# Altium footprint library DriverLib.PcbLib: 13 footprints
Each footprint in its own frame and in the unit in brackets; x right, y up, seen from the top. Pads: shape width x height; smd on the part's side, far side on the other; paste and mask are expansions set on the pad; w line width, h text height; cw(c..) or ccw(c..) is an arc to the next point about the centre after c.
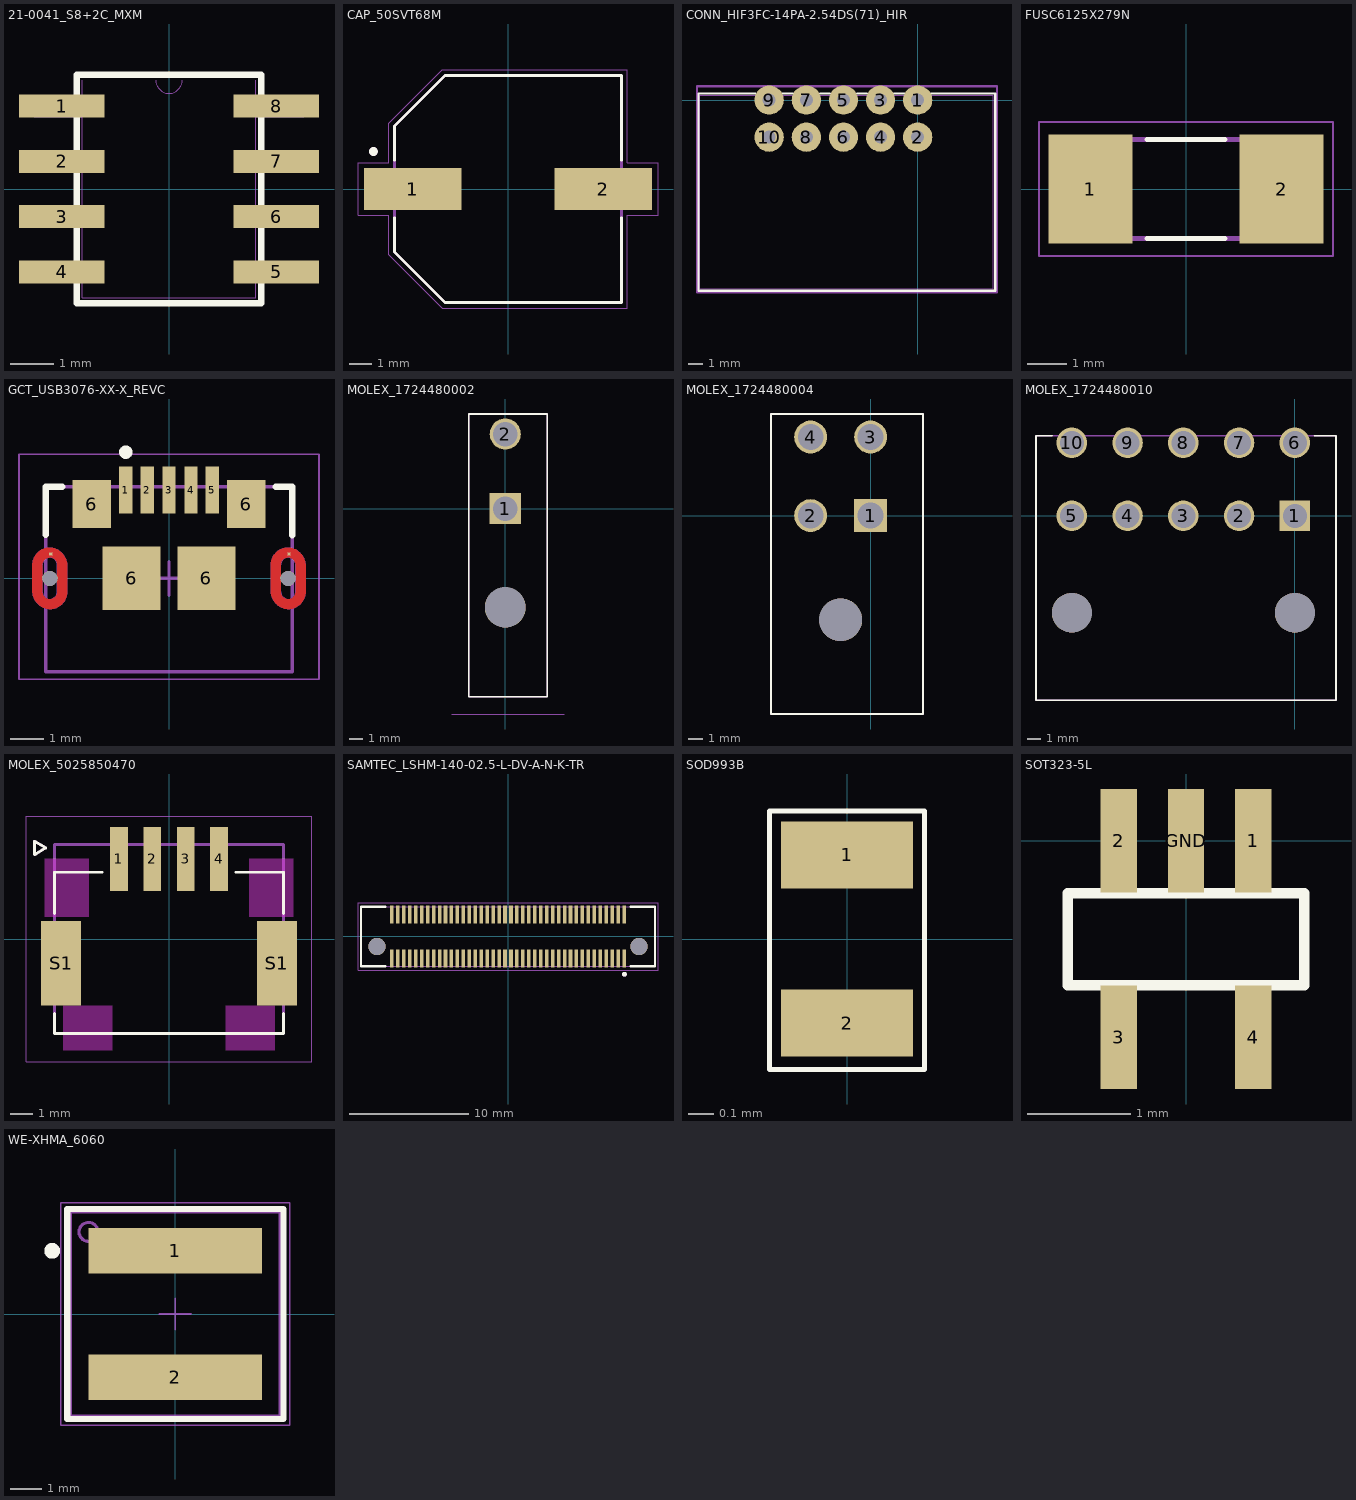
[diagram p0: the footprints below, top view; thin cyan lines are the x and y axes]

## 21-0041_S8+2C_MXM [mm]
pads (8):
  rect 1.97x0.533 smd paste+0 mask+0: 1(-2.464,1.905) 2(-2.464,0.635) 3(-2.464,-0.635) 4(-2.464,-1.905) 5(2.464,-1.905) 6(2.464,-0.635) 7(2.464,0.635) 8(2.464,1.905)
Top Overlay:
  lines w0.152: -2.121,-2.629 2.121,-2.629 2.121,2.629 -2.121,2.629 -2.121,-2.629
Mechanical 13:
  lines w0: -0.305,2.502 ccw(c0,2.502) 0.305,2.502
  lines w0.025: -1.994,2.502 -1.994,-2.502 1.994,-2.502 1.994,2.502 ; -3.099,-2.146 -1.994,-2.146 -1.994,-1.664 -3.099,-1.664 -3.099,-2.146 ; -3.099,-0.876 -1.994,-0.876 -1.994,-0.394 -3.099,-0.394 -3.099,-0.876 ; -3.099,0.394 -1.994,0.394 -1.994,0.876 -3.099,0.876 -3.099,0.394 ; -3.099,1.664 -1.994,1.664 -1.994,2.146 -3.099,2.146 -3.099,1.664 ; 1.994,-2.146 3.099,-2.146 3.099,-1.664 1.994,-1.664 1.994,-2.146 ; 1.994,-0.876 3.099,-0.876 3.099,-0.394 1.994,-0.394 1.994,-0.876 ; 1.994,0.394 3.099,0.394 3.099,0.876 1.994,0.876 1.994,0.394 ; 1.994,1.664 3.099,1.664 3.099,2.146 1.994,2.146 1.994,1.664
3D body "21-0041_S8+2C_MXM.step": height 1.76, standoff 0, extent -3.099,-2.502 3.099,2.502
3D body: height 0.25, standoff 0, extent 0,0 0.254,0.254

## CAP_50SVT68M [mm]
pads (2):
  rect 4.4x1.9 smd: 1(-4.318,0) 2(4.318,0)
Top Overlay:
  circle w0.2: c-6.1,1.7 r0.1
  lines w0.127: -5.15,-1.3 -5.15,-2.85 -2.85,-5.15 5.15,-5.15 5.15,-1.3 ; -5.15,1.3 -5.15,2.85 -2.85,5.15 5.15,5.15 5.15,1.3
Mechanical 13:
  circle w0.2: c-6.1,1.7 r0.1
  lines w0.127: -5.15,-2.85 -2.85,-5.15 5.15,-5.15 5.15,5.15 -2.85,5.15 -5.15,2.85 -5.15,-2.85
Mechanical 15:
  lines w0.05: -6.8,-1.2 -5.4,-1.2 -5.4,-2.975 -2.975,-5.4 5.4,-5.4 5.4,-1.2 6.8,-1.2 6.8,1.2 5.4,1.2 5.4,5.4 -2.975,5.4 -5.4,2.975 -5.4,1.2 -6.8,1.2 -6.8,-1.2
3D body "50SVT68M.STEP": height 12.57, standoff -0.03, extent -5.373,-5.023 5.627,5.277

## CONN_HIF3FC-14PA-2.54DS(71)_HIR [mm]
pads (10):
  round 2 hole 0.889 mask+0: 1(0,0) 2(0,-2.54) 3(-2.54,0) 4(-2.54,-2.54) 5(-5.08,0) 6(-5.08,-2.54) 7(-7.62,0) 8(-7.62,-2.54) 9(-10.16,0) 10(-10.16,-2.54)
Top Overlay:
  lines w0.152: -11.1,0.447 -15,0.447 -15,-13.04 5.2,-13.04 ; -9.231,0.447 -8.549,0.447 ; -6.691,0.447 -6.009,0.447 ; -4.151,0.447 -3.469,0.447 ; -1.611,0.447 -0.929,0.447 ; 0.929,0.447 5.296,0.447 5.296,-13.04
Mechanical 13:
  lines w0.025: -14.9,-12.913 -14.9,0.32 5.169,0.32 5.169,-12.913 -14.9,-12.913
Mechanical 15:
  lines w0.152: -15.1,-13.167 5.423,-13.167 5.423,0.953 -15.1,0.953 -15.1,-13.167
3D body "HIF3FC-10PA-2.54DS.stp": height 8.75, standoff -3.05, extent -15.2,-12.7 5,0.27

## FUSC6125X279N [mm]
pads (2):
  rect 2.15x2.8 smd: 1(-2.455,0) 2(2.455,0)
Top Overlay:
  lines w0.127: -1,-1.27 1,-1.27 ; -1,1.27 1,1.27
Mechanical 13:
  lines w0.127: -3.05,-1.27 -3.05,1.27 3.05,1.27 3.05,-1.27 -3.05,-1.27
Mechanical 15:
  lines w0.05: -3.78,-1.72 3.78,-1.72 3.78,1.72 -3.78,1.72 -3.78,-1.72
3D body "step_temp.STEP": height 2.79, standoff 0, extent -3.05,-1.27 3.05,1.27

## GCT_USB3076-XX-X_REVC [mm]
pads (13):
  rect 0.4x1.4 smd: 1(-1.3,2.65) 2(-0.65,2.65) 3(0,2.65) 4(0.66,2.65) 5(1.3,2.65)
  rect 0.1x0.1 smd paste-1 mask+0: 6(-3.549,0.73) 7(3.601,0.73)
  rect 1.15x1.45 smd: 6(-2.32,2.23) 6(2.32,2.23)
  rect 1.75x1.9 smd: 6(-1.125,0) 6(1.125,0)
  round 0.45 hole 0.45 unplated: ""(-3.575,0) ""(3.575,0)
Top Layer:
  region: -3.542,0.923 -3.514,0.919 -3.486,0.914 -3.458,0.907 -3.43,0.899 -3.403,0.889 -3.376,0.878 -3.35,0.866 -3.325,0.852 -3.3,0.837 -3.276,0.82 -3.254,0.803 -3.232,0.784 -3.211,0.764 -3.191,0.743 -3.172,0.721 -3.155,0.699 -3.138,0.675 -3.123,0.65 -3.109,0.625 -3.097,0.599 -3.086,0.572 -3.076,0.545 -3.068,0.517 -3.061,0.489 -3.056,0.461 -3.052,0.433 -3.05,0.404 -3.049,0.375 -3.05,0.35 -3.05,0 -3.35,0 -3.35,0.4 -3.35,0.412 -3.351,0.424 -3.353,0.435 -3.355,0.447 -3.358,0.458 -3.361,0.47 -3.365,0.481 -3.369,0.492 -3.375,0.502 -3.38,0.512 -3.386,0.523 -3.393,0.532 -3.4,0.542 -3.408,0.551 -3.416,0.559 -3.424,0.567 -3.433,0.575 -3.443,0.582 -3.452,0.589 -3.463,0.595 -3.473,0.6 -3.483,0.606 -3.494,0.61 -3.505,0.614 -3.517,0.617 -3.528,0.62 -3.54,0.622 -3.551,0.624 -3.563,0.625 -3.587,0.625 -3.599,0.624 -3.61,0.622 -3.622,0.62 -3.633,0.617 -3.645,0.614 -3.656,0.61 -3.667,0.606 -3.677,0.6 -3.688,0.595 -3.698,0.589 -3.707,0.582 -3.717,0.575 -3.726,0.567 -3.734,0.559 -3.742,0.551 -3.75,0.542 -3.757,0.532 -3.764,0.523 -3.77,0.513 -3.775,0.502 -3.781,0.492 -3.785,0.481 -3.789,0.47 -3.792,0.458 -3.795,0.447 -3.797,0.435 -3.799,0.424 -3.8,0.412 -3.8,0.4 -3.8,0 -4.1,0 -4.1,0.4 -4.099,0.427 -4.097,0.455 -4.094,0.482 -4.089,0.509 -4.082,0.536 -4.074,0.562 -4.065,0.588 -4.055,0.614 -4.043,0.638 -4.03,0.663 -4.015,0.686 -4,0.709 -3.983,0.73 -3.965,0.751 -3.946,0.771 -3.926,0.79 -3.905,0.808 -3.884,0.825 -3.861,0.84 -3.837,0.855 -3.813,0.868 -3.789,0.88 -3.763,0.89 -3.737,0.899 -3.711,0.907 -3.684,0.914 -3.657,0.919 -3.63,0.922 -3.602,0.924 -3.575,0.925
  region: -3.05,-0.4 -3.051,-0.427 -3.053,-0.455 -3.056,-0.482 -3.061,-0.509 -3.068,-0.536 -3.076,-0.562 -3.085,-0.588 -3.095,-0.614 -3.107,-0.638 -3.12,-0.662 -3.135,-0.686 -3.15,-0.709 -3.167,-0.73 -3.185,-0.751 -3.204,-0.771 -3.224,-0.79 -3.245,-0.808 -3.266,-0.825 -3.289,-0.84 -3.313,-0.855 -3.337,-0.868 -3.361,-0.88 -3.387,-0.89 -3.413,-0.899 -3.439,-0.907 -3.466,-0.914 -3.493,-0.919 -3.52,-0.922 -3.548,-0.924 -3.575,-0.925 -3.608,-0.923 -3.636,-0.919 -3.664,-0.914 -3.692,-0.907 -3.72,-0.899 -3.747,-0.889 -3.774,-0.878 -3.8,-0.866 -3.825,-0.852 -3.85,-0.837 -3.874,-0.82 -3.896,-0.803 -3.918,-0.784 -3.939,-0.764 -3.959,-0.743 -3.978,-0.721 -3.995,-0.699 -4.012,-0.675 -4.027,-0.65 -4.041,-0.625 -4.053,-0.599 -4.064,-0.572 -4.074,-0.545 -4.082,-0.517 -4.089,-0.489 -4.094,-0.461 -4.098,-0.433 -4.1,-0.404 -4.101,-0.375 -4.1,-0.35 -4.1,0 -3.8,0 -3.8,-0.4 -3.8,-0.412 -3.799,-0.424 -3.797,-0.435 -3.795,-0.447 -3.792,-0.458 -3.789,-0.47 -3.785,-0.481 -3.781,-0.492 -3.775,-0.502 -3.77,-0.513 -3.764,-0.523 -3.757,-0.532 -3.75,-0.542 -3.742,-0.551 -3.734,-0.559 -3.726,-0.567 -3.717,-0.575 -3.707,-0.582 -3.698,-0.589 -3.688,-0.595 -3.677,-0.6 -3.667,-0.606 -3.656,-0.61 -3.645,-0.614 -3.633,-0.617 -3.622,-0.62 -3.61,-0.622 -3.599,-0.624 -3.587,-0.625 -3.563,-0.625 -3.551,-0.624 -3.54,-0.622 -3.528,-0.62 -3.517,-0.617 -3.505,-0.614 -3.494,-0.61 -3.483,-0.606 -3.473,-0.6 -3.463,-0.595 -3.452,-0.589 -3.443,-0.582 -3.433,-0.575 -3.424,-0.567 -3.416,-0.559 -3.408,-0.551 -3.4,-0.542 -3.393,-0.532 -3.386,-0.523 -3.38,-0.512 -3.375,-0.502 -3.369,-0.492 -3.365,-0.481 -3.361,-0.47 -3.358,-0.458 -3.355,-0.447 -3.353,-0.435 -3.351,-0.424 -3.35,-0.412 -3.35,-0.4 -3.35,0 -3.05,0
  region: 3.608,0.923 3.636,0.919 3.664,0.914 3.692,0.907 3.72,0.899 3.747,0.889 3.774,0.878 3.8,0.866 3.825,0.852 3.85,0.837 3.874,0.82 3.896,0.803 3.918,0.784 3.939,0.764 3.959,0.743 3.978,0.721 3.995,0.699 4.012,0.675 4.027,0.65 4.041,0.625 4.053,0.599 4.064,0.572 4.074,0.545 4.082,0.517 4.089,0.489 4.094,0.461 4.098,0.433 4.1,0.404 4.101,0.375 4.1,0.35 4.1,0 3.8,0 3.8,0.4 3.8,0.412 3.799,0.424 3.797,0.435 3.795,0.447 3.792,0.458 3.789,0.47 3.785,0.481 3.781,0.492 3.775,0.502 3.77,0.513 3.764,0.523 3.757,0.532 3.75,0.542 3.742,0.551 3.734,0.559 3.726,0.567 3.717,0.575 3.707,0.582 3.698,0.589 3.688,0.595 3.677,0.6 3.667,0.606 3.656,0.61 3.645,0.614 3.633,0.617 3.622,0.62 3.61,0.622 3.599,0.624 3.587,0.625 3.563,0.625 3.551,0.624 3.54,0.622 3.528,0.62 3.517,0.617 3.505,0.614 3.494,0.61 3.483,0.606 3.473,0.6 3.463,0.595 3.452,0.589 3.443,0.582 3.433,0.575 3.424,0.567 3.416,0.559 3.408,0.551 3.4,0.542 3.393,0.532 3.386,0.523 3.38,0.512 3.375,0.502 3.369,0.492 3.365,0.481 3.361,0.47 3.358,0.458 3.355,0.447 3.353,0.435 3.351,0.424 3.35,0.412 3.35,0.4 3.35,0 3.05,0 3.05,0.4 3.051,0.427 3.053,0.455 3.056,0.482 3.061,0.509 3.068,0.536 3.076,0.562 3.085,0.588 3.095,0.614 3.107,0.638 3.12,0.662 3.135,0.686 3.15,0.709 3.167,0.73 3.185,0.751 3.204,0.771 3.224,0.79 3.245,0.808 3.266,0.825 3.289,0.84 3.313,0.855 3.337,0.868 3.361,0.88 3.387,0.89 3.413,0.899 3.439,0.907 3.466,0.914 3.493,0.919 3.52,0.922 3.548,0.924 3.575,0.925
  region: 4.1,-0.4 4.099,-0.427 4.097,-0.455 4.094,-0.482 4.089,-0.509 4.082,-0.536 4.074,-0.562 4.065,-0.588 4.055,-0.614 4.043,-0.638 4.03,-0.663 4.015,-0.686 4,-0.709 3.983,-0.73 3.965,-0.751 3.946,-0.771 3.926,-0.79 3.905,-0.808 3.884,-0.825 3.861,-0.84 3.837,-0.855 3.813,-0.868 3.789,-0.88 3.763,-0.89 3.737,-0.899 3.711,-0.907 3.684,-0.914 3.657,-0.919 3.63,-0.922 3.602,-0.924 3.575,-0.925 3.542,-0.923 3.514,-0.919 3.486,-0.914 3.458,-0.907 3.43,-0.899 3.403,-0.889 3.376,-0.878 3.35,-0.866 3.325,-0.852 3.3,-0.837 3.276,-0.82 3.254,-0.803 3.232,-0.784 3.211,-0.764 3.191,-0.743 3.172,-0.721 3.155,-0.699 3.138,-0.675 3.123,-0.65 3.109,-0.625 3.097,-0.599 3.086,-0.572 3.076,-0.545 3.068,-0.517 3.061,-0.489 3.056,-0.461 3.052,-0.433 3.05,-0.404 3.049,-0.375 3.05,-0.35 3.05,0 3.35,0 3.35,-0.4 3.35,-0.412 3.351,-0.424 3.353,-0.435 3.355,-0.447 3.358,-0.458 3.361,-0.47 3.365,-0.481 3.369,-0.492 3.375,-0.502 3.38,-0.512 3.386,-0.523 3.393,-0.532 3.4,-0.542 3.408,-0.551 3.416,-0.559 3.424,-0.567 3.433,-0.575 3.443,-0.582 3.452,-0.589 3.463,-0.595 3.473,-0.6 3.483,-0.606 3.494,-0.61 3.505,-0.614 3.517,-0.617 3.528,-0.62 3.54,-0.622 3.551,-0.624 3.563,-0.625 3.587,-0.625 3.599,-0.624 3.61,-0.622 3.622,-0.62 3.633,-0.617 3.645,-0.614 3.656,-0.61 3.667,-0.606 3.677,-0.6 3.688,-0.595 3.698,-0.589 3.707,-0.582 3.717,-0.575 3.726,-0.567 3.734,-0.559 3.742,-0.551 3.75,-0.542 3.757,-0.532 3.764,-0.523 3.77,-0.513 3.775,-0.502 3.781,-0.492 3.785,-0.481 3.789,-0.47 3.792,-0.458 3.795,-0.447 3.797,-0.435 3.799,-0.424 3.8,-0.412 3.8,-0.4 3.8,0 4.1,0
Bottom Layer:
  region: -3.542,0.923 -3.514,0.919 -3.486,0.914 -3.458,0.907 -3.43,0.899 -3.403,0.889 -3.376,0.878 -3.35,0.866 -3.325,0.852 -3.3,0.837 -3.276,0.82 -3.254,0.803 -3.232,0.784 -3.211,0.764 -3.191,0.743 -3.172,0.721 -3.155,0.699 -3.138,0.675 -3.123,0.65 -3.109,0.625 -3.097,0.599 -3.086,0.572 -3.076,0.545 -3.068,0.517 -3.061,0.489 -3.056,0.461 -3.052,0.433 -3.05,0.404 -3.049,0.375 -3.05,0.35 -3.05,0 -3.35,0 -3.35,0.4 -3.35,0.412 -3.351,0.424 -3.353,0.435 -3.355,0.447 -3.358,0.458 -3.361,0.47 -3.365,0.481 -3.369,0.492 -3.375,0.502 -3.38,0.512 -3.386,0.523 -3.393,0.532 -3.4,0.542 -3.408,0.551 -3.416,0.559 -3.424,0.567 -3.433,0.575 -3.443,0.582 -3.452,0.589 -3.463,0.595 -3.473,0.6 -3.483,0.606 -3.494,0.61 -3.505,0.614 -3.517,0.617 -3.528,0.62 -3.54,0.622 -3.551,0.624 -3.563,0.625 -3.587,0.625 -3.599,0.624 -3.61,0.622 -3.622,0.62 -3.633,0.617 -3.645,0.614 -3.656,0.61 -3.667,0.606 -3.677,0.6 -3.688,0.595 -3.698,0.589 -3.707,0.582 -3.717,0.575 -3.726,0.567 -3.734,0.559 -3.742,0.551 -3.75,0.542 -3.757,0.532 -3.764,0.523 -3.77,0.513 -3.775,0.502 -3.781,0.492 -3.785,0.481 -3.789,0.47 -3.792,0.458 -3.795,0.447 -3.797,0.435 -3.799,0.424 -3.8,0.412 -3.8,0.4 -3.8,0 -4.1,0 -4.1,0.4 -4.099,0.427 -4.097,0.455 -4.094,0.482 -4.089,0.509 -4.082,0.536 -4.074,0.562 -4.065,0.588 -4.055,0.614 -4.043,0.638 -4.03,0.663 -4.015,0.686 -4,0.709 -3.983,0.73 -3.965,0.751 -3.946,0.771 -3.926,0.79 -3.905,0.808 -3.884,0.825 -3.861,0.84 -3.837,0.855 -3.813,0.868 -3.789,0.88 -3.763,0.89 -3.737,0.899 -3.711,0.907 -3.684,0.914 -3.657,0.919 -3.63,0.922 -3.602,0.924 -3.575,0.925
  region: -3.05,-0.4 -3.051,-0.427 -3.053,-0.455 -3.056,-0.482 -3.061,-0.509 -3.068,-0.536 -3.076,-0.562 -3.085,-0.588 -3.095,-0.614 -3.107,-0.638 -3.12,-0.662 -3.135,-0.686 -3.15,-0.709 -3.167,-0.73 -3.185,-0.751 -3.204,-0.771 -3.224,-0.79 -3.245,-0.808 -3.266,-0.825 -3.289,-0.84 -3.313,-0.855 -3.337,-0.868 -3.361,-0.88 -3.387,-0.89 -3.413,-0.899 -3.439,-0.907 -3.466,-0.914 -3.493,-0.919 -3.52,-0.922 -3.548,-0.924 -3.575,-0.925 -3.608,-0.923 -3.636,-0.919 -3.664,-0.914 -3.692,-0.907 -3.72,-0.899 -3.747,-0.889 -3.774,-0.878 -3.8,-0.866 -3.825,-0.852 -3.85,-0.837 -3.874,-0.82 -3.896,-0.803 -3.918,-0.784 -3.939,-0.764 -3.959,-0.743 -3.978,-0.721 -3.995,-0.699 -4.012,-0.675 -4.027,-0.65 -4.041,-0.625 -4.053,-0.599 -4.064,-0.572 -4.074,-0.545 -4.082,-0.517 -4.089,-0.489 -4.094,-0.461 -4.098,-0.433 -4.1,-0.404 -4.101,-0.375 -4.1,-0.35 -4.1,0 -3.8,0 -3.8,-0.4 -3.8,-0.412 -3.799,-0.424 -3.797,-0.435 -3.795,-0.447 -3.792,-0.458 -3.789,-0.47 -3.785,-0.481 -3.781,-0.492 -3.775,-0.502 -3.77,-0.513 -3.764,-0.523 -3.757,-0.532 -3.75,-0.542 -3.742,-0.551 -3.734,-0.559 -3.726,-0.567 -3.717,-0.575 -3.707,-0.582 -3.698,-0.589 -3.688,-0.595 -3.677,-0.6 -3.667,-0.606 -3.656,-0.61 -3.645,-0.614 -3.633,-0.617 -3.622,-0.62 -3.61,-0.622 -3.599,-0.624 -3.587,-0.625 -3.563,-0.625 -3.551,-0.624 -3.54,-0.622 -3.528,-0.62 -3.517,-0.617 -3.505,-0.614 -3.494,-0.61 -3.483,-0.606 -3.473,-0.6 -3.463,-0.595 -3.452,-0.589 -3.443,-0.582 -3.433,-0.575 -3.424,-0.567 -3.416,-0.559 -3.408,-0.551 -3.4,-0.542 -3.393,-0.532 -3.386,-0.523 -3.38,-0.512 -3.375,-0.502 -3.369,-0.492 -3.365,-0.481 -3.361,-0.47 -3.358,-0.458 -3.355,-0.447 -3.353,-0.435 -3.351,-0.424 -3.35,-0.412 -3.35,-0.4 -3.35,0 -3.05,0
  region: 3.608,0.923 3.636,0.919 3.664,0.914 3.692,0.907 3.72,0.899 3.747,0.889 3.774,0.878 3.8,0.866 3.825,0.852 3.85,0.837 3.874,0.82 3.896,0.803 3.918,0.784 3.939,0.764 3.959,0.743 3.978,0.721 3.995,0.699 4.012,0.675 4.027,0.65 4.041,0.625 4.053,0.599 4.064,0.572 4.074,0.545 4.082,0.517 4.089,0.489 4.094,0.461 4.098,0.433 4.1,0.404 4.101,0.375 4.1,0.35 4.1,0 3.8,0 3.8,0.4 3.8,0.412 3.799,0.424 3.797,0.435 3.795,0.447 3.792,0.458 3.789,0.47 3.785,0.481 3.781,0.492 3.775,0.502 3.77,0.513 3.764,0.523 3.757,0.532 3.75,0.542 3.742,0.551 3.734,0.559 3.726,0.567 3.717,0.575 3.707,0.582 3.698,0.589 3.688,0.595 3.677,0.6 3.667,0.606 3.656,0.61 3.645,0.614 3.633,0.617 3.622,0.62 3.61,0.622 3.599,0.624 3.587,0.625 3.563,0.625 3.551,0.624 3.54,0.622 3.528,0.62 3.517,0.617 3.505,0.614 3.494,0.61 3.483,0.606 3.473,0.6 3.463,0.595 3.452,0.589 3.443,0.582 3.433,0.575 3.424,0.567 3.416,0.559 3.408,0.551 3.4,0.542 3.393,0.532 3.386,0.523 3.38,0.512 3.375,0.502 3.369,0.492 3.365,0.481 3.361,0.47 3.358,0.458 3.355,0.447 3.353,0.435 3.351,0.424 3.35,0.412 3.35,0.4 3.35,0 3.05,0 3.05,0.4 3.051,0.427 3.053,0.455 3.056,0.482 3.061,0.509 3.068,0.536 3.076,0.562 3.085,0.588 3.095,0.614 3.107,0.638 3.12,0.662 3.135,0.686 3.15,0.709 3.167,0.73 3.185,0.751 3.204,0.771 3.224,0.79 3.245,0.808 3.266,0.825 3.289,0.84 3.313,0.855 3.337,0.868 3.361,0.88 3.387,0.89 3.413,0.899 3.439,0.907 3.466,0.914 3.493,0.919 3.52,0.922 3.548,0.924 3.575,0.925
  region: 4.1,-0.4 4.099,-0.427 4.097,-0.455 4.094,-0.482 4.089,-0.509 4.082,-0.536 4.074,-0.562 4.065,-0.588 4.055,-0.614 4.043,-0.638 4.03,-0.663 4.015,-0.686 4,-0.709 3.983,-0.73 3.965,-0.751 3.946,-0.771 3.926,-0.79 3.905,-0.808 3.884,-0.825 3.861,-0.84 3.837,-0.855 3.813,-0.868 3.789,-0.88 3.763,-0.89 3.737,-0.899 3.711,-0.907 3.684,-0.914 3.657,-0.919 3.63,-0.922 3.602,-0.924 3.575,-0.925 3.542,-0.923 3.514,-0.919 3.486,-0.914 3.458,-0.907 3.43,-0.899 3.403,-0.889 3.376,-0.878 3.35,-0.866 3.325,-0.852 3.3,-0.837 3.276,-0.82 3.254,-0.803 3.232,-0.784 3.211,-0.764 3.191,-0.743 3.172,-0.721 3.155,-0.699 3.138,-0.675 3.123,-0.65 3.109,-0.625 3.097,-0.599 3.086,-0.572 3.076,-0.545 3.068,-0.517 3.061,-0.489 3.056,-0.461 3.052,-0.433 3.05,-0.404 3.049,-0.375 3.05,-0.35 3.05,0 3.35,0 3.35,-0.4 3.35,-0.412 3.351,-0.424 3.353,-0.435 3.355,-0.447 3.358,-0.458 3.361,-0.47 3.365,-0.481 3.369,-0.492 3.375,-0.502 3.38,-0.512 3.386,-0.523 3.393,-0.532 3.4,-0.542 3.408,-0.551 3.416,-0.559 3.424,-0.567 3.433,-0.575 3.443,-0.582 3.452,-0.589 3.463,-0.595 3.473,-0.6 3.483,-0.606 3.494,-0.61 3.505,-0.614 3.517,-0.617 3.528,-0.62 3.54,-0.622 3.551,-0.624 3.563,-0.625 3.587,-0.625 3.599,-0.624 3.61,-0.622 3.622,-0.62 3.633,-0.617 3.645,-0.614 3.656,-0.61 3.667,-0.606 3.677,-0.6 3.688,-0.595 3.698,-0.589 3.707,-0.582 3.717,-0.575 3.726,-0.567 3.734,-0.559 3.742,-0.551 3.75,-0.542 3.757,-0.532 3.764,-0.523 3.77,-0.513 3.775,-0.502 3.781,-0.492 3.785,-0.481 3.789,-0.47 3.792,-0.458 3.795,-0.447 3.797,-0.435 3.799,-0.424 3.8,-0.412 3.8,-0.4 3.8,0 4.1,0
Top Overlay:
  circle w0.2: c-1.295,3.785 r0.102
  lines w0.2: -3.7,1.305 -3.7,2.75 -3.2,2.75 ; 3.2,2.75 3.7,2.75 3.7,1.295
Top Paste:
  drawing of 8 lines, arcs and shapes, not listed
Bottom Paste:
  drawing of 8 lines, arcs and shapes, not listed
Top Solder:
  region: -2.849,-1.151 -4.304,-1.151 -4.304,1.15 -2.849,1.15
  region: 4.301,-1.152 2.856,-1.152 2.856,1.15 4.301,1.15
Bottom Solder:
  region: -2.849,-1.152 -4.307,-1.152 -4.307,1.15 -2.849,1.15
  region: 4.301,-1.151 2.854,-1.151 2.854,1.15 4.301,1.15
Mechanical 1:
  lines w0: -3.35,0.402 ccw(c-3.574,0.402) -3.574,0.626 ccw(c-3.575,0.401) -3.8,0.401 -3.8,-0.4 ccw(c-3.575,-0.4) -3.575,-0.625 ccw(c-3.575,-0.4) -3.35,-0.4 -3.35,0.402 ; 3.8,0.402 ccw(c3.575,0.402) 3.575,0.626 ccw(c3.575,0.401) 3.35,0.401 3.35,-0.4 ccw(c3.575,-0.4) 3.575,-0.625 ccw(c3.575,-0.4) 3.8,-0.4 3.8,0.402
Mechanical 13:
  lines w0.1: -3.7,-2.8 3.7,-2.8 3.7,2.75 -3.7,2.75 -3.7,-2.8
Mechanical 15:
  lines w0.05: -4.5,-3.025 4.5,-3.025 4.5,3.725 -4.5,3.725 -4.5,-3.025
  lines w0.1: -0.508,0 0.508,0 ; 0,-0.508 0,0.508
3D body "USB3076-30-A--3DModel-STEP-56544.STEP": height 2.66, standoff -1, extent -3.7,-2.775 3.7,2.775

## MOLEX_1724480002 [mm]
height 11.4
pads (3):
  rect 2.3x2.3 hole 1.8 mask+0.076: 1(0,0)
  round 2.3 hole 1.8 mask+0.076: 2(0,5.5)
  round 3 hole 3 unplated mask+0.076: ""(0,-7.3)
Top Overlay:
  lines w0.127: -2.7,-13.9 -2.7,6.985 3.1,6.985 3.1,-13.9 -2.7,-13.9
Mechanical 13:
  lines w0.127: -2.7,-13.9 -2.7,6.985 3.1,6.985 3.1,-13.9 -2.7,-13.9
Mechanical 15:
  lines w0.05: -3.97,-15.17 4.37,-15.17
3D body "step_temp.STEP": height 11.4, standoff -3.6, extent -2.752,-13.905 3.048,6.031

## MOLEX_1724480004 [mm]
pads (5):
  rect 2.3x2.3 hole 1.8 mask+0.076: 1(0,0)
  round 2.3 hole 1.8 mask+0.076: 2(-4.2,0) 3(0,5.5) 4(-4.2,5.5)
  round 3 hole 3 unplated: ""(-2.1,-7.3)
Top Overlay:
  lines w0.127: -6.985,-13.9 -6.985,7.112 3.683,7.112 3.683,-13.9 -6.985,-13.9
Bottom Solder:
  circle w1.226: c0,5.5 r0.613
  circle w1.226: c-4.2,0 r0.613
  circle w1.226: c-4.2,5.5 r0.613
  region: 1.226,-1.226 -1.226,-1.226 -1.226,1.226 1.226,1.226
Mechanical 13:
  lines w0.127: -6.985,-13.9 -6.985,7.112 3.683,7.112 3.683,-13.9 -6.985,-13.9
3D body "6006.stp": height 11.58, standoff -3.49, extent -7.62,-13.9 3.686,6.035

## MOLEX_1724480010 [mm]
height 11.4
pads (12):
  rect 2.3x2.3 hole 1.8 mask+0.076: 1(0,0)
  round 2.3 hole 1.8 mask+0.076: 2(-4.2,0) 3(-8.4,0) 4(-12.6,0) 5(-16.8,0) 6(0,5.5) 7(-4.2,5.5) 8(-8.4,5.5) 9(-12.6,5.5) 10(-16.8,5.5)
  round 3 hole 3 unplated mask+0.076: ""(-16.8,-7.3) ""(0,-7.3)
Top Overlay:
  lines w0.127: -18.276,6.04 -19.5,6.04 -19.5,-13.9 3.1,-13.9 3.1,6.04 1.476,6.04
Mechanical 13:
  lines w0.127: -19.5,-13.9 -19.5,6.04 3.1,6.04 3.1,-13.9 -19.5,-13.9
3D body "step_temp.STEP": height 11.4, standoff -3.6, extent -19.482,-13.97 3.118,5.965

## MOLEX_5025850470 [mm]
pads (6):
  rect 0.8x2.9 smd mask+0.076: 1(-2.25,3.6) 2(-0.75,3.6) 3(0.75,3.6) 4(2.25,3.6)
  rect 1.8x3.8 smd mask+0.076: S1(-4.85,-1.1) S1(4.85,-1.1)
Top Overlay:
  lines w0.127: -5.15,-3.35 -5.15,-4.25 5.15,-4.25 5.15,-3.35 ; -5.15,1.15 -5.15,3 -3,3 ; 3,3 5.15,3 5.15,1.15 ; -6.05,3.8 -5.55,4.1 -6.05,4.4 -6.05,3.8
Keep-Out Layer:
  region: 4.75,-5 2.55,-5 2.55,-3 4.75,-3
  region: 5.6,1 3.6,1 3.6,3.6 5.6,3.6
  region: -2.55,-5 -4.75,-5 -4.75,-3 -2.55,-3
  region: -3.6,1 -5.6,1 -5.6,3.6 -3.6,3.6
Mechanical 13:
  lines w0.127: -6.05,3.8 -5.55,4.1 -6.05,4.4 -6.05,3.8 ; -5.15,-4.25 -5.15,4.25 5.15,4.25 5.15,-4.25 -5.15,-4.25
Mechanical 15:
  lines w0.05: -6.42,-5.52 6.42,-5.52 6.42,5.52 -6.42,5.52 -6.42,-5.52
3D body "5025850470.stp": height 6.38, standoff -0.02, extent -5.15,-3.942 5.15,4.558

## SAMTEC_LSHM-140-02.5-L-DV-A-N-K-TR [mm]
pads (82):
  rect 0.3x1.5 smd: 01(9.75,-1.85) 02(9.75,1.85) 03(9.25,-1.85) 04(9.25,1.85) 05(8.75,-1.85) 06(8.75,1.85) 07(8.25,-1.85) 08(8.25,1.85) 09(7.75,-1.85) 10(7.75,1.85) 11(7.25,-1.85) 12(7.25,1.85) 13(6.75,-1.85) 14(6.75,1.85) 15(6.25,-1.85) 16(6.25,1.85) 17(5.75,-1.85) 18(5.75,1.85) 19(5.25,-1.85) 20(5.25,1.85) 21(4.75,-1.85) 22(4.75,1.85) 23(4.25,-1.85) 24(4.25,1.85) 25(3.75,-1.85) 26(3.75,1.85) 27(3.25,-1.85) 28(3.25,1.85) 29(2.75,-1.85) 30(2.75,1.85) 31(2.25,-1.85) 32(2.25,1.85) 33(1.75,-1.85) 34(1.75,1.85) 35(1.25,-1.85) 36(1.25,1.85) 37(0.75,-1.85) 38(0.75,1.85) 39(0.25,-1.85) 40(0.25,1.85) 41(-0.25,-1.85) 42(-0.25,1.85) 43(-0.75,-1.85) 44(-0.75,1.85) 45(-1.25,-1.85) 46(-1.25,1.85) 47(-1.75,-1.85) 48(-1.75,1.85) 49(-2.25,-1.85) 50(-2.25,1.85) 51(-2.75,-1.85) 52(-2.75,1.85) 53(-3.25,-1.85) 54(-3.25,1.85) 55(-3.75,-1.85) 56(-3.75,1.85) 57(-4.25,-1.85) 58(-4.25,1.85) 59(-4.75,-1.85) 60(-4.75,1.85) 61(-5.25,-1.85) 62(-5.25,1.85) 63(-5.75,-1.85) 64(-5.75,1.85) 65(-6.25,-1.85) 66(-6.25,1.85) 67(-6.75,-1.85) 68(-6.75,1.85) 69(-7.25,-1.85) 70(-7.25,1.85) 71(-7.75,-1.85) 72(-7.75,1.85) 73(-8.25,-1.85) 74(-8.25,1.85) 75(-8.75,-1.85) 76(-8.75,1.85) 77(-9.25,-1.85) 78(-9.25,1.85) 79(-9.75,-1.85) 80(-9.75,1.85)
  round 1.45 hole 1.45 unplated: ""(-11,-0.85) ""(11,-0.85)
Top Overlay:
  circle w0.2: c9.779,-3.175 r0.1
  lines w0.2: -10.3,-2.49 -12.35,-2.49 -12.35,2.49 -10.3,2.49 ; 10.3,-2.49 12.35,-2.49 12.35,2.49 10.3,2.49
Mechanical 13:
  circle w0.2: c9.779,-3.175 r0.1
  lines w0.1: -12.35,-2.49 12.35,-2.49 12.35,2.49 -12.35,2.49 -12.35,-2.49
Mechanical 15:
  lines w0.05: -12.6,-2.85 12.6,-2.85 12.6,2.85 -12.6,2.85 -12.6,-2.85
3D body "LSHM-140-02.5-L-DV-A-N-K-TR.stp": height 4.08, standoff -0.87, extent -12.4,-2.49 12.4,2.49

## SOD993B [mm] "TVS DUAL"
height 6.1
pads (2):
  rect 0.51x0.26 smd paste-2539.97 mask+0.01: 1(0,0.325) 2(0,-0.325)
Top Overlay:
  lines w0.02: -0.3,-0.505 -0.3,0.495 0.3,0.495 0.3,-0.505 -0.3,-0.505
3D body "PTVS5V0Z1BSCYL.STEP": height 0.28, standoff -0.02, extent -0.3,-0.505 0.3,0.495

## SOT323-5L [mm]
pads (5):
  rect 0.35x1 smd: 1(0.65,0) 2(-0.65,0) 3(-0.65,-1.9) 4(0.65,-1.9) GND(0,0)
Top Overlay:
  lines w0.1: -1.143,-1.397 -1.143,-0.508 1.143,-0.508 1.143,-1.397 -1.143,-1.397
3D body "SOT323-5L_STM.step": height 1.09, standoff 0, extent -1.105,-2.21 1.105,0.178

## WE-XHMA_6060 [mm] "SMT Power Inductor, 2-Leads, body 6.65x6.45mm"
height 6.1
pads (2):
  rect 5.5x1.45 smd: 1(0,2) 2(0,-2)
Top Overlay:
  circle w0.25: c-3.9,2 r0.125
  lines w0.2: -3.425,-3.325 -3.425,3.325 3.425,3.325 3.425,-3.325 -3.425,-3.325
Top 3D Body:
  circle w0.1: c-2.75,2.6 r0.3
  lines w0.1: -3.325,-3.225 3.325,-3.225 3.325,3.225 -3.325,3.225 -3.325,-3.225
Top Courtyard:
  lines w0.05: -0.5,0 0.5,0 ; 0,-0.5 0,0.5 ; -3.625,-3.525 -3.625,3.525 3.625,3.525 3.625,-3.525 -3.625,-3.525
Top Assembly:
  circle w0.1: c-2.75,2.6 r0.3
  lines w0.1: -3.325,-3.225 -3.325,3.225 3.325,3.225 3.325,-3.225 -3.325,-3.225
3D body "78439346xxx.stp": height 5.8, standoff 0, extent -3.325,-3.225 3.325,3.225